# Altium schematic symbol library Phototransistors.SchLib: 1 symbol
Pins are listed as number, name and electrical type; pins without a type are passive.

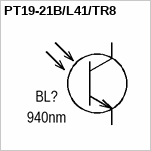
[diagram p0: symbol PT19-21B/L41/TR8]

## PT19-21B/L41/TR8
designator BL?, comment 940nm
IR Phototransistor; Manufacturer: Everlight Electronics; Part name: PT19-21B/L41/TR8; Group: Phototransistors; Package: 1608; Wavelength: 940nm
footprint PT1608N (IR ptototransistor, Body 1.6x0.8mm)
pins: 1 Emitter "Cathode", 2 Collector "Cathode"